# Altium schematic symbol library MiscDevices.SchLib: 4 symbols
Pins are listed as number, name and electrical type; pins without a type are passive.

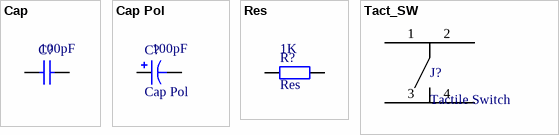
[diagram p0: symbols Cap to Tact_SW]

## Cap
designator C?  value 100pF
Capacitor; Published: 8-Jun-2000; LatestRevisionDate: 17-Jul-2002; LatestRevisionNote: Re-released for DXP Platform.; PackageReference: RAD-0.3; Publisher: Altium Limited; PackageDescription: Radial Cap, Thru-Hole; 2 Leads; 0.3 in Pin Spacing
footprint 1206 (Chip Capacitor, Body 3.2x1.6mm, Hand Solder)
simulation model CAP (Capacitor)
signal-integrity model Cap
footprint CAP-5MM (Thru-Hole; 2 Leads; 2.54mm Pin Spacing)
footprint 0805 (Chip Capacitor, Body 2.0x1.3mm, IPC High Density)
footprint 0603 (Chip Inductor, Body 0.6x0.3mm, IPC High Density)
pins: 1, 2

## Cap Pol
designator C?  value 100pF
Polarized Capacitor (Axial); Published: 8-Jun-2000; LatestRevisionDate: 17-Jul-2002; LatestRevisionNote: Re-released for DXP Platform.; PackageReference: POLAR0.8; Publisher: Altium Limited; PackageDescription: Polarized Capacitor; 2 Leads
footprint CAPR-5mm (Capacitor; 2 Leads)
simulation model CAP (Capacitor)
signal-integrity model Cap Pol
footprint CAPR-2.54mm (Capacitor; 2 Leads)
footprint CAPR-3mm (Capacitor; 2 Leads)
pins: 1, 2
1 alternate drawing of the same symbol

## Res
designator R?  value 1K
Resistor; Published: 8-Jun-2000; LatestRevisionDate: 17-Jul-2002; LatestRevisionNote: Re-released for DXP Platform.; PackageReference: AXIAL-0.4; Publisher: Altium Limited; PackageDescription: Axial Device, Thru-Hole; 2 Leads; 0.4 in Pin Spacing
footprint 0603 (Chip Inductor, Body 0.6x0.3mm, IPC High Density)
simulation model RESISTOR (Resistor)
signal-integrity model Res
footprint Res-1W (Axial Device, Thru-Hole; 2 Leads; 0.4 in Pin Spacing)
footprint Res-1/4W (Axial Device, Thru-Hole; 2 Leads; 0.3 in Pin Spacing)
footprint 0805 (Chip Capacitor, Body 2.0x1.3mm, IPC High Density)
footprint 1206 (Chip Capacitor, Body 3.2x1.6mm, Hand Solder)
pins: 1, 2

## Tact_SW
designator J?, comment Tactile Switch
Value: 1K; Published: 8-Jun-2000; LatestRevisionDate: 17-Jul-2002; LatestRevisionNote: Re-released for DXP Platform.; PackageReference: AXIAL-0.4; Publisher: Altium Limited; PackageDescription: Axial Device, Thru-Hole; 2 Leads; 0.4 in Pin Spacing
footprint Tactile-SW (Photosensitive Diode; 2 Leads)
footprint Tactile-SW SMT (Photosensitive Diode; 2 Leads)
pins: 1, 2, 3, 4